# Altium schematic symbol library MyLibrary.SchLib: 21 symbols
Pins are listed as number, name and electrical type; pins without a type are passive.

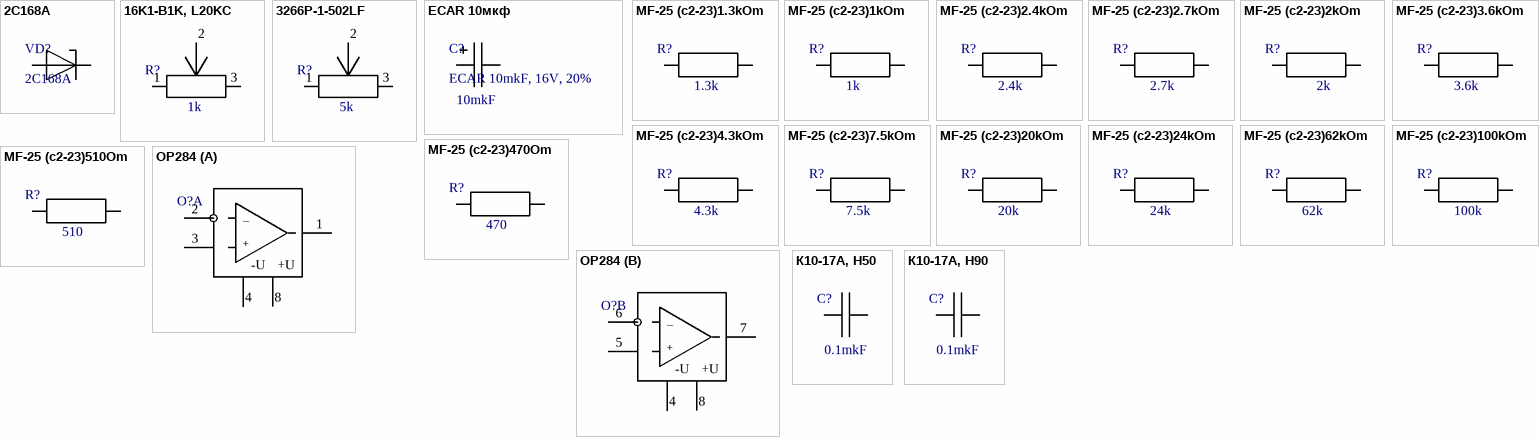
[diagram p0: symbols 2C168A to К10-17А, Н90]

## 2C168A
designator VD?
Vmax: 7.5V; Vmin: 6.1V; Vnom: 6.8V; ValueType: Стабилитрон; Part Number: 2C168A; ValueName: 2C168A; ComponentLink1Description: Datasheet; ComponentLink1URL: C:\Users\Дмитрий\Desktop\Дима\4 курс\2 семестр\Курсовая работа 4курс 2 сем\MyMU2\DataSheet\Kd4.pdf
pins: Minus, Plus

## 16K1-B1K, L20KC
designator R?, comment value 1k  (hidden comment: 16K1-B1K, L20KC, 1kOm, 300° ,10%)
Reostat; ValueType: Резистор переменный; PartNumber: 16K1-B1K, L20KC, 1kOm, 300° ,10%; ComponentLink1Description: Datasheet; ComponentLink1URL: C:\Users\Дмитрий\Desktop\Дима\4 курс\2 семестр\Курсовая работа 4курс 2 сем\MyMU2\DataSheet\16K1; Package: 16K1
pins: 1, 2, 3

## 3266Р-1-502LF
designator R?, comment value 5k  (hidden comment: 3266Р-1-502LF, 5kОм, 0.25 Вт,N=11, 10%)
Reostat; ValueType: Резистор переменный; PartNumber: 3266Р-1-502LF, 5kОм, 0.25 Вт,N=11, 10%; ComponentLink1Description: Datasheet; ComponentLink1URL: C:\Users\Дмитрий\Desktop\Дима\4 курс\2 семестр\Курсовая работа 4курс 2 сем\MyMU2\DataSheet\3266; Package: 3266
pins: 1, 2, 3

## ECAR 10мкф
designator С?, comment ECAR 10mkF, 16V, 20%  value 10mkF
ChipCapasitor; ValueName: ECAR 10мкф, 16 В, 20%; ValueType: Конденсатор; Part Number: ECAR 10mkF, 16V, 20%; ComponentLink1Description: Datasheet; ComponentLink1URL: C:\Users\Дмитрий\Desktop\Дима\4 курс\2 семестр\Курсовая работа 4курс 2 сем\MyMU2\DataSheet\K150-35
pins: Minus, Plus

## MF-25 (c2-23)1.3kOm
designator R?, comment value 1.3k  (hidden comment: MF-25 (c2-23) 0.25/0.125Вт, 1.3кОм, 1%)
Resistor; ValueType: Резистор; PartNumber: MF-25 (c2-23) 0.25/0.125Вт, 1.3кОм, 1%; ComponentLink1Description: Datasheet; ComponentLink1URL: C:\Users\Дмитрий\Desktop\Дима\4 курс\2 семестр\Курсовая работа 4курс 2 сем\MyMU2\DataSheet\C2-23; Package: C2-23
pins: 1, 2

## MF-25 (c2-23)1kOm
designator R?, comment value 1k  (hidden comment: MF-25 (c2-23) 0.25/0.125Вт, 1кОм, 1%)
Resistor; ValueType: Резистор; PartNumber: MF-25 (c2-23) 0.25/0.125Вт, 1кОм, 1%; ComponentLink1Description: Datasheet; ComponentLink1URL: C:\Users\Дмитрий\Desktop\Дима\4 курс\2 семестр\Курсовая работа 4курс 2 сем\MyMU2\DataSheet\C2-23; Package: C2-23
pins: 1, 2

## MF-25 (c2-23)2.4kOm
designator R?, comment value 2.4k  (hidden comment: MF-25 (c2-23) 0.25/0.125Вт,2.4k, 1%)
Resistor; ValueType: Резистор; PartNumber: MF-25 (c2-23) 0.25/0.125Вт,2.4k, 1%; ComponentLink1Description: Datasheet; ComponentLink1URL: C:\Users\Дмитрий\Desktop\Дима\4 курс\2 семестр\Курсовая работа 4курс 2 сем\MyMU2\DataSheet\C2-23; Package: C2-23
pins: 1, 2

## MF-25 (c2-23)2.7kOm
designator R?, comment value 2.7k  (hidden comment: MF-25 (c2-23) 0.25/0.125Вт,2.7кОм, 1%)
Resistor; ValueType: Резистор; PartNumber: MF-25 (c2-23) 0.25/0.125Вт,2.7кОм, 1%; ComponentLink1Description: Datasheet; ComponentLink1URL: C:\Users\Дмитрий\Desktop\Дима\4 курс\2 семестр\Курсовая работа 4курс 2 сем\MyMU2\DataSheet\C2-23; Package: C2-23
pins: 1, 2

## MF-25 (c2-23)2kOm
designator R?, comment value 2k  (hidden comment: MF-25 (c2-23) 0.25/0.125Вт, 2кОм, 1%)
Resistor; ValueType: Резистор; PartNumber: MF-25 (c2-23) 0.25/0.125Вт, 2кОм, 1%; ComponentLink1Description: Datasheet; ComponentLink1URL: C:\Users\Дмитрий\Desktop\Дима\4 курс\2 семестр\Курсовая работа 4курс 2 сем\MyMU2\DataSheet\C2-23; Package: C2-23
pins: 1, 2

## MF-25 (c2-23)3.6kOm
designator R?, comment value 3.6k  (hidden comment: MF-25 (c2-23) 0.25/0.125Вт, 3.6кОм, 1%)
Resistor; ValueType: Резистор; PartNumber: MF-25 (c2-23) 0.25/0.125Вт, 3.6кОм, 1%; ComponentLink1Description: Datasheet; ComponentLink1URL: C:\Users\Дмитрий\Desktop\Дима\4 курс\2 семестр\Курсовая работа 4курс 2 сем\MyMU2\DataSheet\C2-23; Package: C2-23
pins: 1, 2

## MF-25 (c2-23)4.3kOm
designator R?, comment value 4.3k  (hidden comment: MF-25 (c2-23) 0.25/0.125Вт, 4.3кОм, 1%)
Resistor; ValueType: Резистор; PartNumber: MF-25 (c2-23) 0.25/0.125Вт, 4.3кОм, 1%; ComponentLink1Description: Datasheet; ComponentLink1URL: C:\Users\Дмитрий\Desktop\Дима\4 курс\2 семестр\Курсовая работа 4курс 2 сем\MyMU2\DataSheet\C2-23; Package: C2-23
pins: 1, 2

## MF-25 (c2-23)7.5kOm
designator R?, comment value 7.5k  (hidden comment: MF-25 (c2-23) 0.25/0.125Вт, 7.5кОм, 1%)
Resistor; ValueType: Резистор; PartNumber: MF-25 (c2-23) 0.25/0.125Вт, 7.5кОм, 1%; ComponentLink1Description: Datasheet; ComponentLink1URL: C:\Users\Дмитрий\Desktop\Дима\4 курс\2 семестр\Курсовая работа 4курс 2 сем\MyMU2\DataSheet\C2-23; Package: C2-23
pins: 1, 2

## MF-25 (c2-23)20kOm
designator R?, comment value 20k  (hidden comment: MF-25 (c2-23) 0.25/0.125Вт, 20кОм, 1%)
Resistor; ValueType: Резистор; PartNumber: MF-25 (c2-23) 0.25/0.125Вт, 20кОм, 1%; ComponentLink1Description: Datasheet; ComponentLink1URL: C:\Users\Дмитрий\Desktop\Дима\4 курс\2 семестр\Курсовая работа 4курс 2 сем\MyMU2\DataSheet\C2-23; Package: C2-23
pins: 1, 2

## MF-25 (c2-23)24kOm
designator R?, comment value 24k  (hidden comment: MF-25 (c2-23) 0.25/0.125Вт, 24кОм, 1%)
Resistor; ValueType: Резистор; PartNumber: MF-25 (c2-23) 0.25/0.125Вт, 24кОм, 1%; ComponentLink1Description: Datasheet; ComponentLink1URL: C:\Users\Дмитрий\Desktop\Дима\4 курс\2 семестр\Курсовая работа 4курс 2 сем\MyMU2\DataSheet\C2-23; Package: C2-23
pins: 1, 2

## MF-25 (c2-23)62kOm
designator R?, comment value 62k  (hidden comment: MF-25 (c2-23) 0.25/0.125Вт, 62кОм, 1%)
Resistor; ValueType: Резистор; PartNumber: MF-25 (c2-23) 0.25/0.125Вт, 62кОм, 1%; ComponentLink1Description: Datasheet; ComponentLink1URL: C:\Users\Дмитрий\Desktop\Дима\4 курс\2 семестр\Курсовая работа 4курс 2 сем\MyMU2\DataSheet\C2-23; Package: C2-23
pins: 1, 2

## MF-25 (c2-23)100kOm
designator R?, comment value 100k  (hidden comment: MF-25 (c2-23) 0.25/0.125Вт, 100кОм, 1%)
Resistor; ValueType: Резистор; PartNumber: MF-25 (c2-23) 0.25/0.125Вт, 100кОм, 1%; ComponentLink1Description: Datasheet; ComponentLink1URL: C:\Users\Дмитрий\Desktop\Дима\4 курс\2 семестр\Курсовая работа 4курс 2 сем\MyMU2\DataSheet\C2-23; Package: C2-23
pins: 1, 2

## MF-25 (c2-23)470Om
designator R?, comment value 470  (hidden comment: MF-25 (c2-23) 0.25/0.125Вт,470Ом, 1%)
Resistor; ValueType: Резистор; PartNumber: MF-25 (c2-23) 0.25/0.125Вт,470Ом, 1%; ComponentLink1Description: Datasheet; ComponentLink1URL: C:\Users\Дмитрий\Desktop\Дима\4 курс\2 семестр\Курсовая работа 4курс 2 сем\MyMU2\DataSheet\C2-23; Package: C2-23
pins: 1, 2

## MF-25 (c2-23)510Om
designator R?, comment value 510  (hidden comment: MF-25 (c2-23) 0.25/0.125Вт, 510Ом, 1%)
Resistor; ValueType: Резистор; PartNumber: MF-25 (c2-23) 0.25/0.125Вт, 510Ом, 1%; ComponentLink1Description: Datasheet; ComponentLink1URL: C:\Users\Дмитрий\Desktop\Дима\4 курс\2 семестр\Курсовая работа 4курс 2 сем\MyMU2\DataSheet\C2-23; Package: C2-23
pins: 1, 2

## OP284
designator O?, comment OP284FS  (value not drawn)
operational amplifier; Input Voltage: ±18 V; Junction Temperature Range: −65°C to +150°C; ValueType: Микросхема; Package: 8-Lead SOIC (S-Suffix); PartNumber: OP284FS; ValueName: OP284FS; ComponentLink1URL: C:\Users\Дмитрий\Desktop\Дима\4 курс\2 семестр\Курсовая работа 4курс 2 сем\MyMU2\DataSheet\OP184_284_484.pdf; ComponentLink1Description: Datasheet
footprint MS-012-AA (8-Lead Standard Small Outline Package [SOIC_N] Narrow Body (R-8) S-Suffix)
part A pins: 1 OUT, 2 IN-, 3 IN+, 4 -U (power), 8 +U (power)
part B pins: 4 -U (power), 5 IN+, 6 IN-, 7 OUT, 8 +U (power)
part A text: –; +
part B text: –; +

## К10-17А, Н50
designator С?, comment value 0.1mkF  (hidden comment: K10-17A, Н50, 0.1 mkF,50V)
ChipCapasitor; ValueName: К10-17А, Н50, 0.1 мкф,50В; ValueType: Конденсатор; Part Number: K10-17A, Н50, 0.1 mkF,50V; ComponentLink1Description: Datasheet; ComponentLink1URL: C:\Users\Дмитрий\Desktop\Дима\4 курс\2 семестр\Курсовая работа 4курс 2 сем\MyMU2\DataSheet\K10-17a.pdf
pins: 1, 2

## К10-17А, Н90
designator С?, comment value 0.1mkF  (hidden comment: K10-17A, Н90, 0.1 mkF,40V)
ChipCapasitor; ValueName: К10-17А, Н90, 0.1 мкф,40В; ValueType: Конденсатор; Part Number: K10-17A, Н90, 0.1 mkF,40V; ComponentLink1Description: Datasheet; ComponentLink1URL: C:\Users\Дмитрий\Desktop\Дима\4 курс\2 семестр\Курсовая работа 4курс 2 сем\MyMU2\DataSheet\K10-17a.pdf
pins: 1, 2